# EAGLE library part QPA2962_B (library My_Library_RADAR)
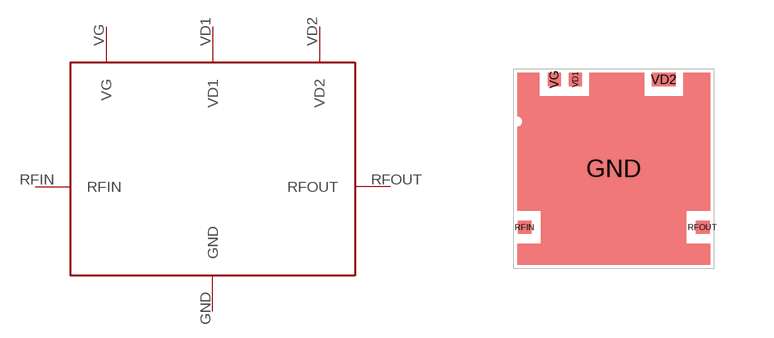
[diagram p18: symbol with the pads of QPA2962_B; footprint QPA2962_B]

Designator prefix -

## QPA2962_B  [QPA2962_B]
GND  GND
RFIN  RFIN
RFOUT  RFOUT
VD1  VD1
VD2  VD2
VG  VG

## Footprint QPA2962_B (pad centres in mm)
smd 1.27 x 0.635: GND 0,0
smd 0.345 x 0.32: RFIN -2.228,-1.465; RFOUT 2.228,-1.465
smd 0.32 x 0.345: VD1 -0.96,2.228; VG -1.48,2.228
smd 0.59 x 0.345: VD2 1.255,2.228